# Altium schematic symbol library SCH - POWER - LINEAR VREG - TI LM1117-1P8NDP.SchLib: 1 symbol
Pins are listed as number, name and electrical type; pins without a type are passive.

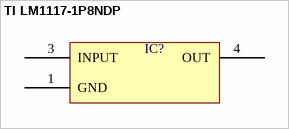
[diagram p0: symbol TI LM1117-1P8NDP]

## TI LM1117-1P8NDP
designator IC?  (value not drawn)
pins: 1 GND, 3 INPUT, 4 OUT